# Altium footprint library Crystal.PcbLib: 185 footprints (part 6 of 12)
Each footprint in its own frame and in the unit in brackets; x right, y up, seen from the top. Pads: shape width x height; smd on the part's side, far side on the other; paste and mask are expansions set on the pad; w line width, h text height; cw(c..) or ccw(c..) is an arc to the next point about the centre after c.
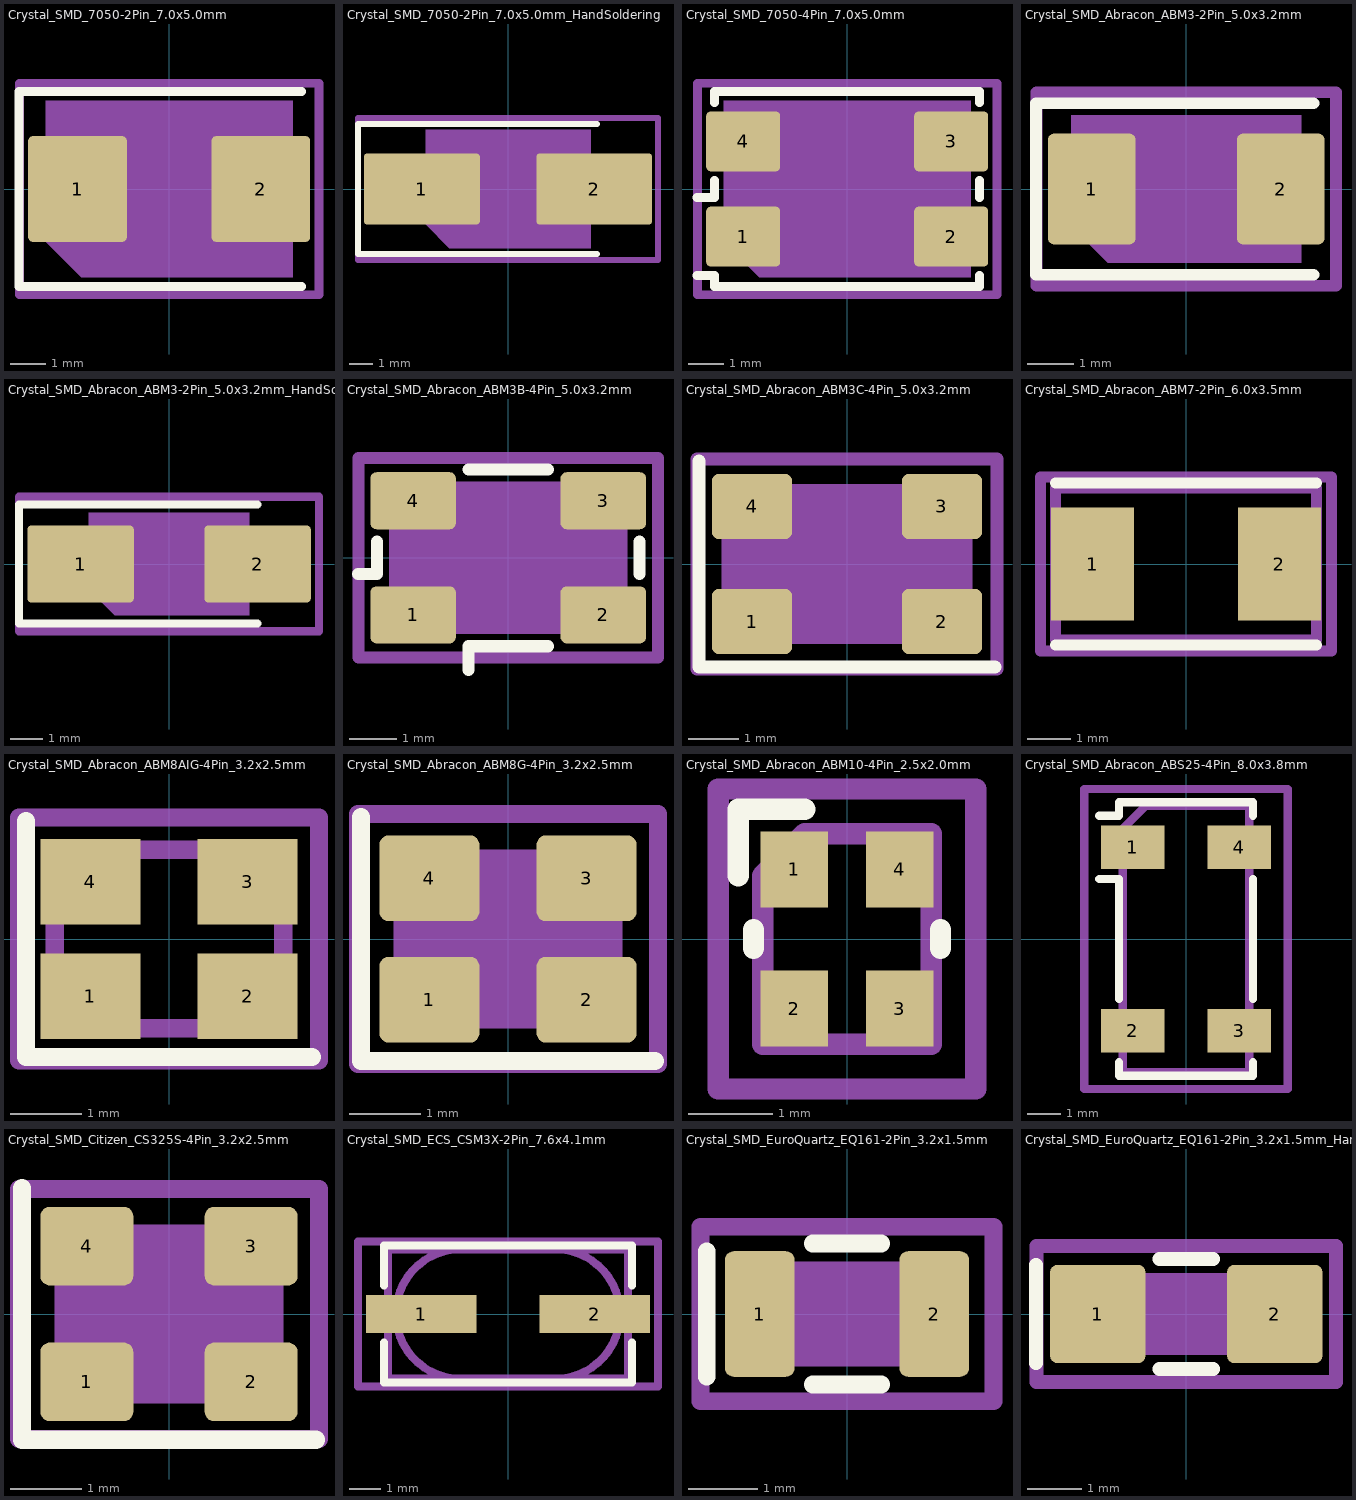
[diagram p5: the footprints below, top view; thin cyan lines are the x and y axes]

## Crystal_SMD_7050-2Pin_7.0x5.0mm [mm]
pads (2):
  rrect9% 2.8x3 smd: 1(-2.6,0) 2(2.6,0)
F.SilkS:
  lines w0.254: 3.76,-2.76 -4.26,-2.76 -4.26,2.76 3.76,2.76
Top Assembly:
  region: 3.5,-2.5 -2.5,-2.5 -3.5,-1.5 -3.5,2.5 3.5,2.5
  text "'.Designator'" at -4.047,-0.84 h1
Top Courtyard:
  lines w0.254: -4.25,-3 4.25,-3 4.25,3 -4.25,3 -4.25,-3
Top Designator:
  text ".Designator" at -7.623,-0.508 h1.52
Top Glue Points (Mech27):
  circle w0.254: c0,0 r0.4

## Crystal_SMD_7050-2Pin_7.0x5.0mm_HandSoldering [mm]
pads (2):
  rrect8% 4.9x3 smd: 1(-3.65,0) 2(3.65,0)
F.SilkS:
  lines w0.254: 3.76,-2.76 -6.36,-2.76 -6.36,2.76 3.76,2.76
Top Assembly:
  region: 3.5,-2.5 -2.5,-2.5 -3.5,-1.5 -3.5,2.5 3.5,2.5
  text "'.Designator'" at -4.047,-0.84 h1
Top Courtyard:
  lines w0.254: -6.35,-3 6.35,-3 6.35,3 -6.35,3 -6.35,-3
Top Designator:
  text ".Designator" at -7.623,-0.508 h1.52
Top Glue Points (Mech27):
  circle w0.254: c0,0 r0.4

## Crystal_SMD_7050-4Pin_7.0x5.0mm [mm]
pads (4):
  rrect15% 2.1x1.7 smd: 1(-2.95,-1.35) 2(2.95,-1.35) 3(2.95,1.35) 4(-2.95,1.35)
F.SilkS:
  lines w0.254: -4.26,-2.46 -3.76,-2.46 -3.76,-2.76 3.76,-2.76 3.76,-2.46 ; -4.26,-0.24 -3.76,-0.24 -3.76,0.24 ; -3.76,2.46 -3.76,2.76 3.76,2.76 3.76,2.46 ; 3.76,-0.24 3.76,0.24
Top Assembly:
  region: 3.5,-2.5 -2.5,-2.5 -3.5,-1.5 -3.5,2.5 3.5,2.5
  text "'.Designator'" at -4.047,-0.84 h1
Top Courtyard:
  lines w0.254: -4.25,-3 4.25,-3 4.25,3 -4.25,3 -4.25,-3
Top Designator:
  text ".Designator" at -7.623,-0.508 h1.52

## Crystal_SMD_Abracon_ABM3-2Pin_5.0x3.2mm [mm]
pads (2):
  rrect13% 1.9x2.4 smd: 1(-2.05,0) 2(2.05,0)
F.SilkS:
  lines w0.254: 2.76,-1.86 -3.26,-1.86 -3.26,1.86 2.76,1.86
Top Assembly:
  region: 2.5,-1.6 -1.7,-1.6 -2.5,-0.8 -2.5,1.6 2.5,1.6
  text "'.Designator'" at -4.047,-0.84 h1
Top Courtyard:
  lines w0.254: -3.25,-2.1 3.25,-2.1 3.25,2.1 -3.25,2.1 -3.25,-2.1
Top Designator:
  text ".Designator" at -7.768,-0.508 h1.52
Top Glue Points (Mech27):
  circle w0.254: c0,0 r0.5

## Crystal_SMD_Abracon_ABM3-2Pin_5.0x3.2mm_HandSoldering [mm]
pads (2):
  rrect10% 3.325x2.4 smd: 1(-2.762,0) 2(2.762,0)
F.SilkS:
  lines w0.254: 2.76,-1.86 -4.685,-1.86 -4.685,1.86 2.76,1.86
Top Assembly:
  region: 2.5,-1.6 -1.7,-1.6 -2.5,-0.8 -2.5,1.6 2.5,1.6
  text "'.Designator'" at -4.047,-0.84 h1
Top Courtyard:
  lines w0.254: -4.68,-2.1 4.68,-2.1 4.68,2.1 -4.68,2.1 -4.68,-2.1
Top Designator:
  text ".Designator" at -7.62,-0.508 h1.52
Top Glue Points (Mech27):
  circle w0.254: c0,0 r0.5

## Crystal_SMD_Abracon_ABM3B-4Pin_5.0x3.2mm [mm]
pads (4):
  rrect21% 1.8x1.2 smd: 1(-2,-1.2) 2(2,-1.2) 3(2,1.2) 4(-2,1.2)
F.SilkS:
  lines w0.254: -3.16,-0.34 -2.76,-0.34 -2.76,0.34 ; -0.84,-2.36 -0.84,-1.86 0.84,-1.86 ; -0.84,1.86 0.84,1.86 ; 2.76,-0.34 2.76,0.34
Top Assembly:
  region: 2.5,-1.6 -1.7,-1.6 -2.5,-0.8 -2.5,1.6 2.5,1.6
  text "'.Designator'" at -4.047,-0.84 h1
Top Courtyard:
  lines w0.254: -3.15,-2.1 3.15,-2.1 3.15,2.1 -3.15,2.1 -3.15,-2.1
Top Designator:
  text ".Designator" at -7.768,-0.638 h1.52
Top Glue Points (Mech27):
  circle w0.254: c0,0 r0.5

## Crystal_SMD_Abracon_ABM3C-4Pin_5.0x3.2mm [mm]
pads (4):
  rrect19% 1.6x1.3 smd: 1(-1.9,-1.15) 2(1.9,-1.15) 3(1.9,1.15) 4(-1.9,1.15)
F.SilkS:
  lines w0.254: -2.96,2.06 -2.96,-2.06 2.96,-2.06
Top Assembly:
  region: 2.5,-1.6 -1.7,-1.6 -2.5,-0.8 -2.5,1.6 2.5,1.6
  text "'.Designator'" at -4.047,-0.84 h1
Top Courtyard:
  lines w0.254: -3,-2.1 3,-2.1 3,2.1 -3,2.1 -3,-2.1
Top Designator:
  text ".Designator" at -7.768,-0.508 h1.52

## Crystal_SMD_Abracon_ABM7-2Pin_6.0x3.5mm [mm]
pads (2):
  rect 1.9x2.6 smd: 1(-2.15,0) 2(2.15,0)
F.SilkS:
  lines w0.254: -3,-1.86 3,-1.86 ; -3,1.86 3,1.86
Top Assembly:
  lines w0.254: -3,-1.75 3,-1.75 3,1.75 -3,1.75 -3,-1.75
  text "'.Designator'" at -4.047,1.76 h1
Top Courtyard:
  lines w0.254: -3.35,-2 3.35,-2 3.35,2 -3.35,2 -3.35,-2
Top Designator:
  text ".Designator" at -7.768,-0.093 h1.52

## Crystal_SMD_Abracon_ABM8AIG-4Pin_3.2x2.5mm [mm]
pads (4):
  rect 1.4x1.2 smd: 1(-1.1,-0.8) 2(1.1,-0.8) 3(1.1,0.8) 4(-1.1,0.8)
F.SilkS:
  lines w0.254: -2,1.65 -2,-1.65 2,-1.65
Top Assembly:
  lines w0.254: -1.6,-0.25 -0.6,-1.25 ; -1.6,-1.05 -1.4,-1.25 1.4,-1.25 1.6,-1.05 1.6,1.05 1.4,1.25 -1.4,1.25 -1.6,1.05 -1.6,-1.05
  text "'.Designator'" at -2.833,-0.588 h0.7
Top Courtyard:
  lines w0.254: -2.1,-1.7 2.1,-1.7 2.1,1.7 -2.1,1.7 -2.1,-1.7
Top Designator:
  text ".Designator" at -7.723,-0.508 h1.52

## Crystal_SMD_Abracon_ABM8G-4Pin_3.2x2.5mm [mm]
pads (4):
  rrect21% 1.4x1.2 smd: 1(-1.1,-0.85) 2(1.1,-0.85) 3(1.1,0.85) 4(-1.1,0.85)
F.SilkS:
  lines w0.254: -2.06,1.71 -2.06,-1.71 2.06,-1.71
Top Assembly:
  region: 1.6,-1.25 -0.975,-1.25 -1.6,-0.625 -1.6,1.25 1.6,1.25
  text "'.Designator'" at -3.237,-0.672 h0.8
Top Courtyard:
  lines w0.254: -2.1,-1.75 2.1,-1.75 2.1,1.75 -2.1,1.75 -2.1,-1.75
Top Designator:
  text ".Designator" at -7.738,-0.508 h1.52

## Crystal_SMD_Abracon_ABM10-4Pin_2.5x2.0mm [mm]
pads (4):
  rect 0.8x0.9 smd: 1(-0.625,0.825) 2(-0.625,-0.825) 3(0.625,-0.825) 4(0.625,0.825)
F.SilkS:
  lines w0.254: -1.29,0.75 -1.29,1.54 -0.5,1.54 ; -1.11,-0.11 -1.11,0.11 ; 1.11,-0.11 1.11,0.11
Top Assembly:
  lines w0.254: -1,-1.25 1,-1.25 1,1.25 -0.5,1.25 -1,0.75 -1,-1.25
  text "'.Designator'" at 0.42,-2.023 h0.5
Top Courtyard:
  lines w0.254: -1.53,-1.78 1.53,-1.78 1.53,1.78 -1.53,1.78 -1.53,-1.78
Top Designator:
  text ".Designator" at -7.618,-0.583 h1.52

## Crystal_SMD_Abracon_ABS25-4Pin_8.0x3.8mm [mm]
pads (4):
  rect 1.9x1.3 smd: 1(-1.6,2.75) 2(-1.6,-2.75) 3(1.6,-2.75) 4(1.6,2.75)
F.SilkS:
  lines w0.254: -2.6,1.8 -2.01,1.8 -2.01,-1.8 ; -2.6,3.7 -2.01,3.7 -2.01,4.1 2.01,4.1 2.01,3.7 ; -2.01,-3.7 -2.01,-4.1 2.01,-4.1 2.01,-3.7 ; 2.01,-1.8 2.01,1.8
Top Assembly:
  lines w0.254: -1.9,-4 1.9,-4 1.9,4 -1.2,4 -1.9,3.3 -1.9,-4
  text "'.Designator'" at -4.047,-0.84 h1
Top Courtyard:
  lines w0.254: -3.05,-4.5 3.05,-4.5 3.05,4.5 -3.05,4.5 -3.05,-4.5
Top Designator:
  text ".Designator" at -7.768,-0.508 h1.52

## Crystal_SMD_Citizen_CS325S-4Pin_3.2x2.5mm [mm]
pads (4):
  rrect23% 1.3x1.1 smd: 1(-1.15,-0.95) 2(1.15,-0.95) 3(1.15,0.95) 4(-1.15,0.95)
F.SilkS:
  lines w0.254: -2.06,1.76 -2.06,-1.76 2.06,-1.76
Top Assembly:
  region: 1.6,-1.25 -0.975,-1.25 -1.6,-0.625 -1.6,1.25 1.6,1.25
  text "'.Designator'" at -3.237,-0.672 h0.8
Top Courtyard:
  lines w0.254: -2.1,-1.75 2.1,-1.75 2.1,1.75 -2.1,1.75 -2.1,-1.75
Top Designator:
  text ".Designator" at -7.738,-0.508 h1.52

## Crystal_SMD_ECS_CSM3X-2Pin_7.6x4.1mm [mm]
pads (2):
  rect 3.5x1.2 smd: 1(-2.75,0) 2(2.75,0)
F.SilkS:
  lines w0.254: -3.92,-0.9 -3.92,-2.17 3.92,-2.17 3.92,-0.9 ; -3.92,0.9 -3.92,2.17 3.92,2.17 3.92,0.9
Top Assembly:
  lines w0.254: -1.5,-2.05 cw(c-1.5,0) -1.5,2.05 ; 1.5,-2.05 ccw(c1.5,0) 1.5,2.05 ; -3.8,-2.05 3.8,-2.05 3.8,2.05 -3.8,2.05 -3.8,-2.05
  text "'.Designator'" at -4.047,-0.79 h1
Top Courtyard:
  lines w0.254: -4.75,-2.3 4.75,-2.3 4.75,2.3 -4.75,2.3 -4.75,-2.3
Top Designator:
  text ".Designator" at -7.618,-0.508 h1.52

## Crystal_SMD_EuroQuartz_EQ161-2Pin_3.2x1.5mm [mm]
pads (2):
  rrect25% 1x1.8 smd: 1(-1.25,0) 2(1.25,0)
F.SilkS:
  lines w0.254: -2.01,-0.9 -2.01,0.9 ; -0.49,-1.01 0.49,-1.01 ; -0.49,1.01 0.49,1.01
Top Assembly:
  region: 1.6,-0.75 -1.225,-0.75 -1.6,-0.375 -1.6,0.75 1.6,0.75
  text "'.Designator'" at -3.237,-0.672 h0.8
Top Courtyard:
  lines w0.254: -2.1,-1.25 2.1,-1.25 2.1,1.25 -2.1,1.25 -2.1,-1.25
Top Designator:
  text ".Designator" at -7.738,-0.508 h1.52

## Crystal_SMD_EuroQuartz_EQ161-2Pin_3.2x1.5mm_HandSoldering [mm]
pads (2):
  rrect14% 1.75x1.8 smd: 1(-1.625,0) 2(1.625,0)
F.SilkS:
  lines w0.254: -2.76,-0.9 -2.76,0.9 ; -0.49,-1.01 0.49,-1.01 ; -0.49,1.01 0.49,1.01
Top Assembly:
  region: 1.6,-0.75 -1.225,-0.75 -1.6,-0.375 -1.6,0.75 1.6,0.75
  text "'.Designator'" at -3.237,-0.672 h0.8
Top Courtyard:
  lines w0.254: -2.75,-1.25 2.75,-1.25 2.75,1.25 -2.75,1.25 -2.75,-1.25
Top Designator:
  text ".Designator" at -7.738,-0.508 h1.52